# Altium schematic symbol library MAX_5925D.SchLib: 1 symbol
Pins are listed as number, name and electrical type; pins without a type are passive.

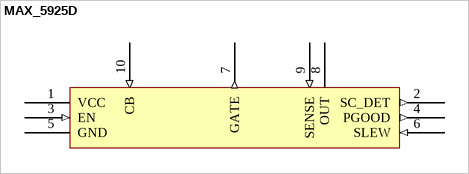
[diagram p0: symbol MAX_5925D]

## MAX_5925D
designator U?  (value not drawn)
Maxim Hot-Swap Controller
pins: 1 VCC (power), 2 SC_DET (out), 3 EN (in), 4 PGOOD (out), 5 GND (power), 6 SLEW (in), 7 GATE (out), 8 OUT (power), 9 SENSE (in), 10 CB (in)